# Altium footprint library Wurth_Elektronik_Passive_rev16a.PCBLIB: 810 footprints (part 32 of 51)
Each footprint in its own frame and in the unit in brackets; x right, y up, seen from the top. Pads: shape width x height; smd on the part's side, far side on the other; paste and mask are expansions set on the pad; w line width, h text height; cw(c..) or ccw(c..) is an arc to the next point about the centre after c.
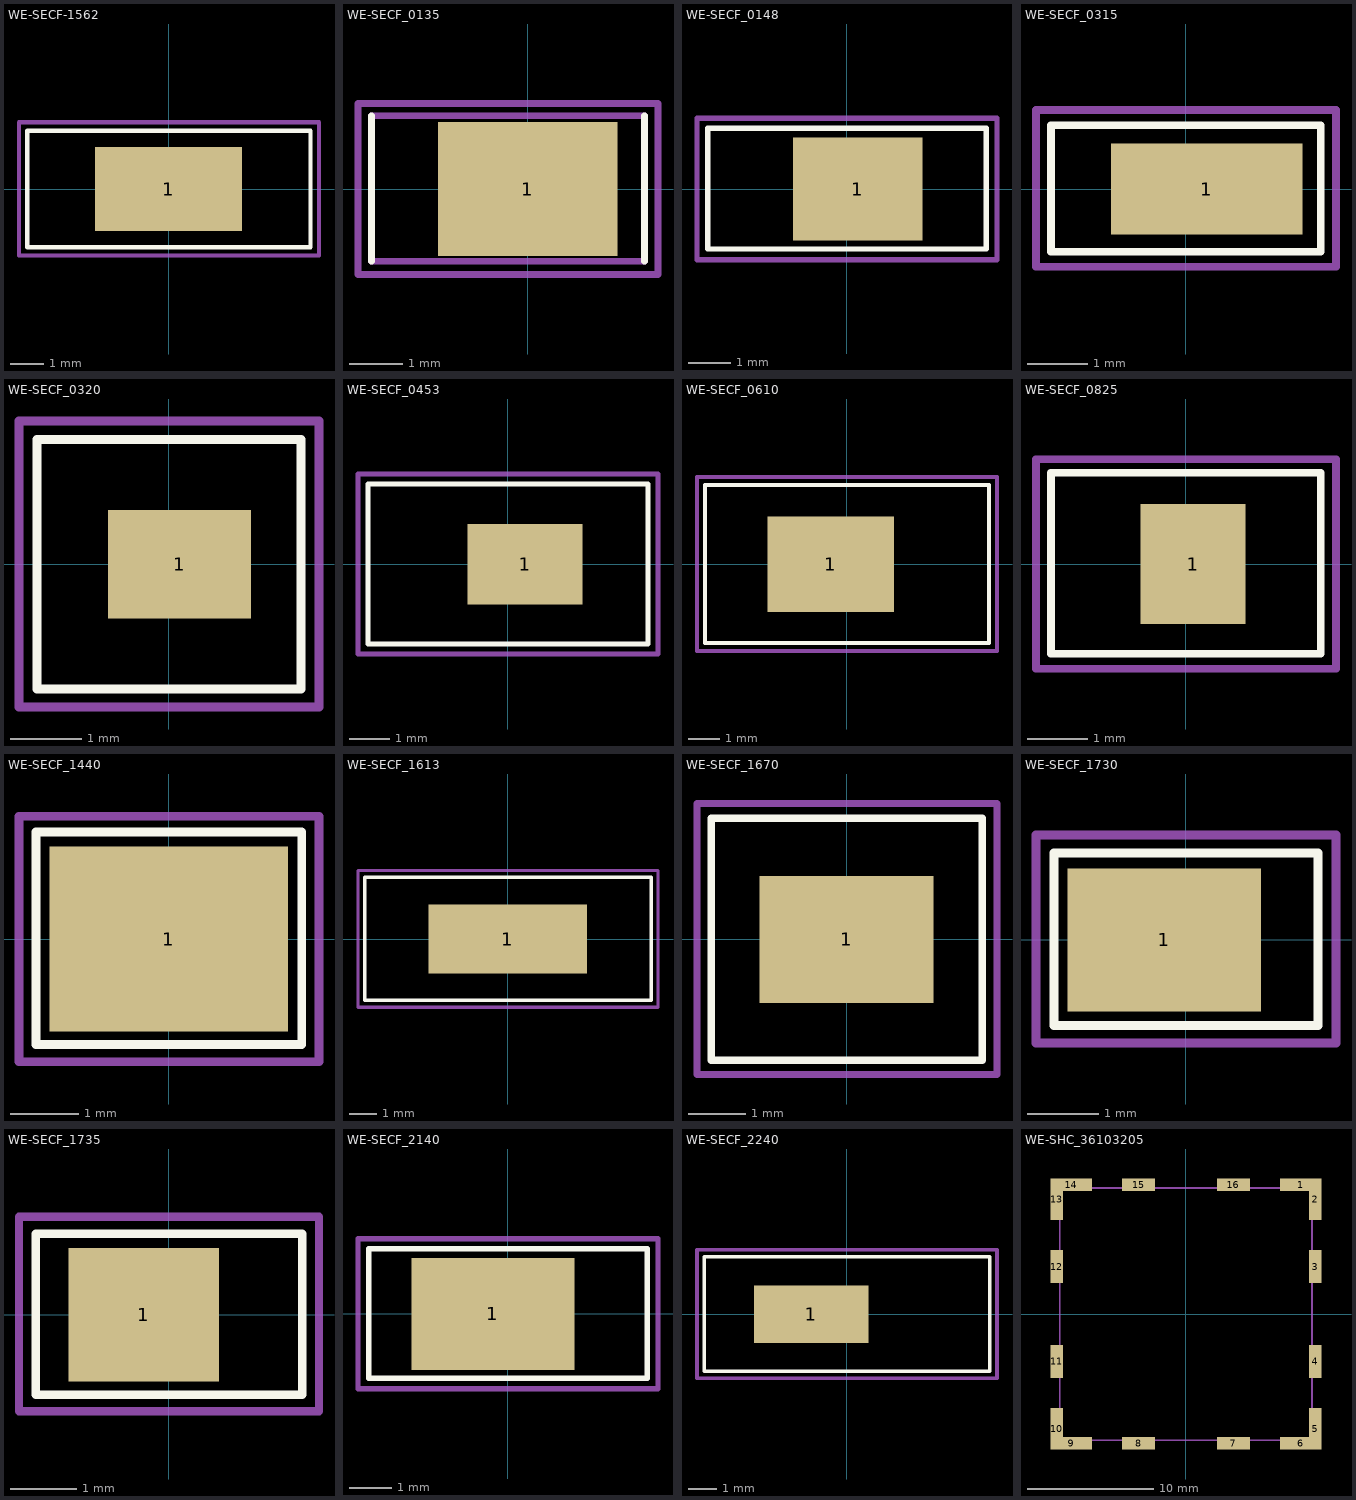
[diagram p31: the footprints below, top view; thin cyan lines are the x and y axes]

## WE-SECF-1562 [mil]
pads (1):
  rect 174x99 smd: 1(0,0)
Top Overlay:
  lines w5: -167.32,-68.9 168,-68.9 168,69 -167.32,69 -167.32,-68.9
Mechanical 2:
  text ">NAME" at -80.31,91 h49.6
Mechanical 4:
  text ">VALUE" at -100,-125 h49.6
Mechanical 27:
  lines w5: -177.17,-78.74 178,-78.74 178,79 -177.17,79 -177.17,-78.74

## WE-SECF_0135 [mil]
pads (1):
  rect 132x99 smd: 1(0,0)
Top Overlay:
  lines w5: -115.16,-53.15 -115.16,54 ; 86,-53.15 86,54
Mechanical 2:
  text ">NAME" at -31.5,71 h24.8
Mechanical 4:
  text ">VALUE" at -31.5,-86.61 h24.8
Mechanical 16:
  lines w5: -115.16,-53.15 86,-53.15 ; -115.16,54 86,54
Mechanical 27:
  lines w5: -125,-62.99 96,-62.99 96,63 -125,63 -125,-62.99

## WE-SECF_0148 [mil]
pads (1):
  rect 119x95 smd: 1(10,0)
Top Overlay:
  lines w5: -127.95,-55.12 128,-55.12 128,56 -127.95,56 -127.95,-55.12
Mechanical 2:
  text ">NAME" at 72,-68.75 h37.2
Mechanical 4:
  text ">VALUE" at 72,93 h37.2
Mechanical 27:
  lines w5: -137.8,-64.96 138,-64.96 138,65 -137.8,65 -137.8,-64.96

## WE-SECF_0315 [mil]
pads (1):
  rect 126x60 smd: 1(14,0)
Top Overlay:
  lines w5: -88.58,-41.34 -88.58,42 89,42 89,-41.34 -88.58,-41.34
Mechanical 2:
  text ">NAME" at 53,83 h37.2
Mechanical 4:
  text ">VALUE" at 57,-58.63 h37.2
Mechanical 27:
  lines w5: -98.43,-51.18 99,-51.18 99,52 -98.43,52 -98.43,-51.18

## WE-SECF_0320 [mil]
pads (1):
  rect 79x60 smd: 1(6,0)
Top Overlay:
  lines w5: -72.83,-68.9 73,-68.9 73,69 -72.83,69 -72.83,-68.9
Mechanical 2:
  text ">NAME" at 44,113 h37.2
Mechanical 4:
  text ">VALUE" at 61,-88.75 h37.2
Mechanical 27:
  lines w5: -82.68,-78.74 -82.68,79 83,79 83,-78.74 -82.68,-78.74

## WE-SECF_0453 [mil]
pads (1):
  rect 113x79 smd: 1(17,0)
Top Overlay:
  lines w5: -137.8,-78.74 138,-78.74 138,79 -137.8,79 -137.8,-78.74
Mechanical 2:
  text ">NAME" at 72,132 h37.2
Mechanical 4:
  text ">VALUE" at 72,-107.25 h37.2
Mechanical 27:
  lines w5: -147.64,-88.58 148,-88.58 148,89 -147.64,89 -147.64,-88.58

## WE-SECF_0610 [mil]
pads (1):
  rect 158x119 smd: 1(-19.68,0)
Top Overlay:
  lines w5: -177.17,-98.43 178,-98.43 178,99 -177.17,99 -177.17,-98.43
Mechanical 2:
  text ">NAME" at -126.38,-172.44 h77.5
Mechanical 4:
  text ">VALUE" at -125,125 h77.5
Mechanical 27:
  lines w5: -187.01,-108.27 188,-108.27 188,109 -187.01,109 -187.01,-108.27

## WE-SECF_0825 [mil]
pads (1):
  rect 69x79 smd: 1(5,0)
Top Overlay:
  lines w5: -88.58,-59.06 89,-59.06 89,60 -88.58,60 -88.58,-59.06
Mechanical 2:
  text ">NAME" at -69.88,-101.38 h37.2
Mechanical 4:
  text ">VALUE" at -75,75 h37.2
Mechanical 27:
  lines w5: -98.43,-68.9 99,-68.9 99,69 -98.43,69 -98.43,-68.9

## WE-SECF_1440 [mil]
pads (1):
  rect 138x107 smd: 1(0,0)
Top Overlay:
  lines w5: -76.77,-61.02 77,-61.02 77,62 -76.77,62 -76.77,-61.02
Mechanical 2:
  text ">NAME" at -96.06,-109.25 h49.6
Mechanical 4:
  text ">VALUE" at -96.06,79 h49.6
Mechanical 27:
  lines w5: -86.61,-70.87 87,-70.87 87,71 -86.61,71 -86.61,-70.87

## WE-SECF_1613 [mil]
pads (1):
  rect 229x99 smd: 1(0,0)
Top Overlay:
  lines w5: -206.69,-88.58 207,-88.58 207,89 -206.69,89 -206.69,-88.58
Mechanical 2:
  text ">NAME" at -117.13,-161.81 h77.5
Mechanical 4:
  text ">VALUE" at -118.5,112 h77.5
Mechanical 27:
  lines w5: -216.54,-98.43 217,-98.43 217,99 -216.54,99 -216.54,-98.43

## WE-SECF_1670 [mil]
pads (1):
  rect 119x87 smd: 1(0,0)
Top Overlay:
  lines w5: -92.52,-82.68 93,-82.68 93,83 -92.52,83 -92.52,-82.68
Mechanical 2:
  text ">NAME" at -150,100 h77.5
Mechanical 4:
  text ">VALUE" at -150,-150 h77.5
Mechanical 27:
  lines w5: -102.36,-92.52 103,-92.52 103,93 -102.36,93 -102.36,-92.52

## WE-SECF_1730 [mil]
pads (1):
  rect 107x79 smd: 1(-11.81,0)
Top Overlay:
  lines w5: -72.83,-47.24 73,-47.24 73,48 -72.83,48 -72.83,-47.24
Mechanical 2:
  text ">NAME" at -76.77,-100.59 h37.2
Mechanical 4:
  text ">VALUE" at -75,75 h37.2
Mechanical 27:
  lines w5: -82.68,-57.09 83,-57.09 83,58 -82.68,58 -82.68,-57.09

## WE-SECF_1735 [mil]
pads (1):
  rect 89x79 smd: 1(-14.76,0)
Top Overlay:
  lines w5: -78.74,-47.24 79,-47.24 79,48 -78.74,48 -78.74,-47.24
Mechanical 2:
  text ">NAME" at -125,-125 h77.5
Mechanical 4:
  text ">VALUE" at -150,75 h77.5
Mechanical 27:
  lines w5: -88.58,-57.09 89,-57.09 89,58 -88.58,58 -88.58,-57.09

## WE-SECF_2140 [mil]
pads (1):
  rect 150x103 smd: 1(-13.78,0)
Top Overlay:
  lines w5: -127.95,-59.06 128,-59.06 128,60 -127.95,60 -127.95,-59.06
Mechanical 2:
  text ">NAME" at -150,75 h77.5
Mechanical 4:
  text ">VALUE" at -150,-125 h77.5
Mechanical 27:
  lines w5: -137.8,-68.9 138,-68.9 138,69 -137.8,69 -137.8,-68.9

## WE-SECF_2240 [mil]
pads (1):
  rect 158x79 smd: 1(-49.21,0)
Top Overlay:
  lines w5: -196.85,-78.74 197,-78.74 197,79 -196.85,79 -196.85,-78.74
Mechanical 2:
  text ">NAME" at -125,100 h77.5
Mechanical 4:
  text ">VALUE" at -125,-150 h77.5
Mechanical 27:
  lines w5: -206.69,-88.58 207,-88.58 207,89 -206.69,89 -206.69,-88.58

## WE-SHC_36103205 [mil]
pads (16):
  rect 130x40 smd: 1(359,404) 6(359,-403.54) 9(-358.27,-403.54) 14(-358.27,404)
  rect 40x130 smd: 2(404,359) 5(404,-358.27) 10(-403.54,-358.27) 13(-403.54,359)
  rect 40x103 smd: 3(404,148) 4(404,-147.64) 11(-403.54,-147.64) 12(-403.54,148)
  rect 103x40 smd: 7(148,-403.54) 8(-147.64,-403.54) 15(-147.64,404) 16(148,404)
Mechanical 2:
  text ">NAME" at -569.45,575 h77.5
Mechanical 4:
  text ">VALUE" at -569.45,-644.45 h77.5
Mechanical 16:
  lines w5: -393.7,-393.7 -393.7,394 394,394 394,-393.7 -393.7,-393.7